# EAGLE library part DSPIC33FJ16GS404-I/PT (library Microchip_By_element14_Batch_1)
16-bit Digital Signal Controllers
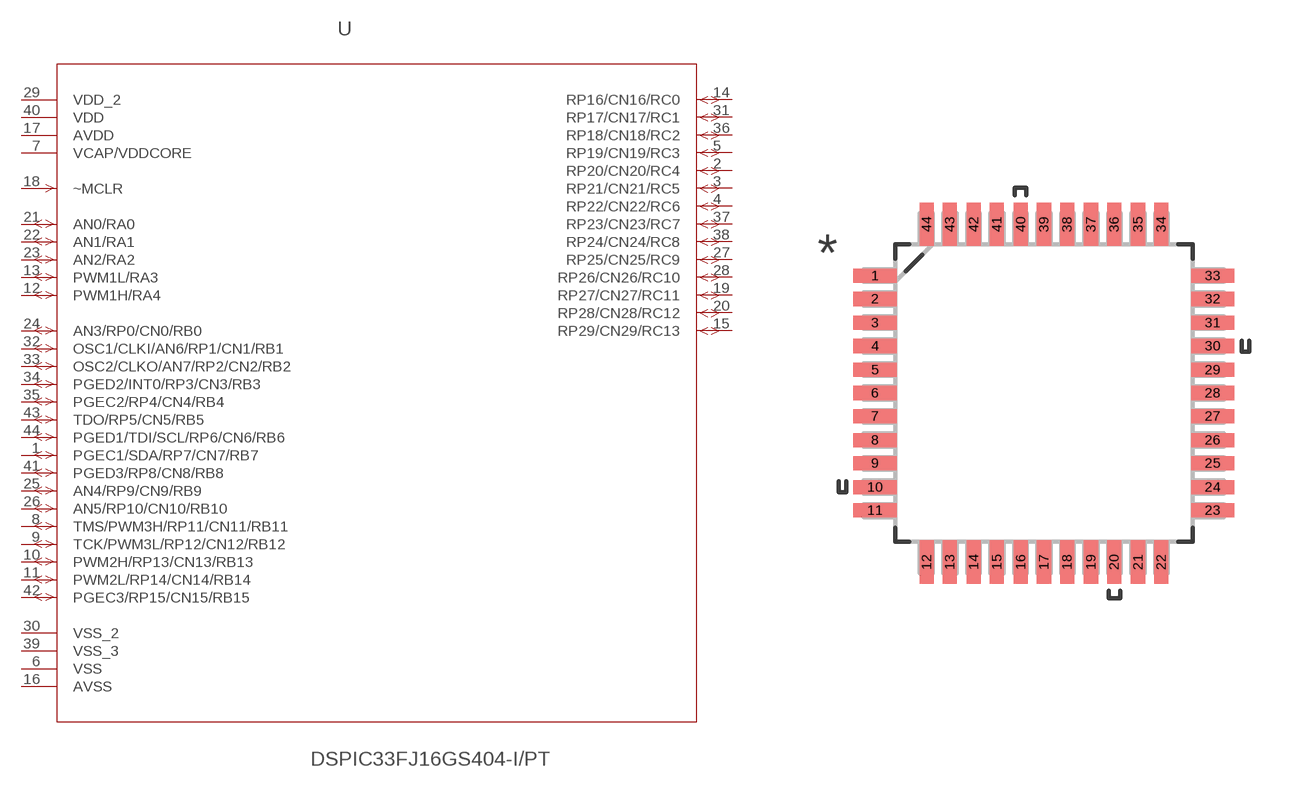
[diagram p380: symbol with the pads of QFP80P1200X1200X120-44N; footprint QFP80P1200X1200X120-44N]

Designator prefix -

## DSPIC33FJ16GS404-I/PT (DESCRIPTION: 16-bit Digital Signal Controllers; MPN: DSPIC33FJ16GS404-I/PT; OC_FARNELL: 1778685; OC_NEWARK: 77M2347; PACKAGE: TQFP-44; SUPPLIER: Microchip)  [QFP80P1200X1200X120-44N]
1  PGEC1/SDA/RP7/CN7/RB7
2  RP20/CN20/RC4
3  RP21/CN21/RC5
4  RP22/CN22/RC6
5  RP19/CN19/RC3
6  VSS  pwr
7  VCAP/VDDCORE  pwr
8  TMS/PWM3H/RP11/CN11/RB11
9  TCK/PWM3L/RP12/CN12/RB12
10  PWM2H/RP13/CN13/RB13
11  PWM2L/RP14/CN14/RB14
12  PWM1H/RA4
13  PWM1L/RA3
14  RP16/CN16/RC0
15  RP29/CN29/RC13
16  AVSS  pwr
17  AVDD  pwr
18  ~MCLR  in
19  RP27/CN27/RC11
20  RP28/CN28/RC12
21  AN0/RA0
22  AN1/RA1
23  AN2/RA2
24  AN3/RP0/CN0/RB0
25  AN4/RP9/CN9/RB9
26  AN5/RP10/CN10/RB10
27  RP25/CN25/RC9
28  RP26/CN26/RC10
29  VDD_2  pwr
30  VSS_2  pwr
31  RP17/CN17/RC1
32  OSC1/CLKI/AN6/RP1/CN1/RB1
33  OSC2/CLKO/AN7/RP2/CN2/RB2
34  PGED2/INT0/RP3/CN3/RB3
35  PGEC2/RP4/CN4/RB4
36  RP18/CN18/RC2
37  RP23/CN23/RC7
38  RP24/CN24/RC8
39  VSS_3  pwr
40  VDD  pwr
41  PGED3/RP8/CN8/RB8
42  PGEC3/RP15/CN15/RB15
43  TDO/RP5/CN5/RB5
44  PGED1/TDI/SCL/RP6/CN6/RB6

## Footprint QFP80P1200X1200X120-44N (pad centres in mm)
smd 1.473 x 0.483: 1 -5.74,3.988; 2 -5.74,3.2; 3 -5.74,2.388; 4 -5.74,1.6; 5 -5.74,0.787; 6 -5.74,0; 7 -5.74,-0.787; 8 -5.74,-1.6; 9 -5.74,-2.388; 10 -5.74,-3.2; 11 -5.74,-3.988; 23 5.74,-3.988; 24 5.74,-3.2; 25 5.74,-2.388; 26 5.74,-1.6; 27 5.74,-0.787; 28 5.74,0; 29 5.74,0.787; 30 5.74,1.6; 31 5.74,2.388; 32 5.74,3.2; 33 5.74,3.988
smd 0.483 x 1.473: 12 -3.988,-5.74; 13 -3.2,-5.74; 14 -2.388,-5.74; 15 -1.6,-5.74; 16 -0.787,-5.74; 17 0,-5.74; 18 0.787,-5.74; 19 1.6,-5.74; 20 2.388,-5.74; 21 3.2,-5.74; 22 3.988,-5.74; 34 3.988,5.74; 35 3.2,5.74; 36 2.388,5.74; 37 1.6,5.74; 38 0.787,5.74; 39 0,5.74; 40 -0.787,5.74; 41 -1.6,5.74; 42 -2.388,5.74; 43 -3.2,5.74; 44 -3.988,5.74